# Altium schematic symbol library header_2_sct.SchLib: 1 symbol
Pins are listed as number, name and electrical type; pins without a type are passive.

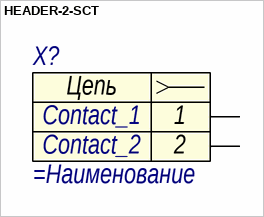
[diagram p0: symbol HEADER-2-SCT]

## HEADER-2-SCT
designator X?
=Описание; Contact_1: Contact_1; Contact_2: Contact_2
pins: 1, 2
text: Цепь